# Altium integrated library TI Power Management Power Modules.IntLib: 831 symbols (part 4 of 44)
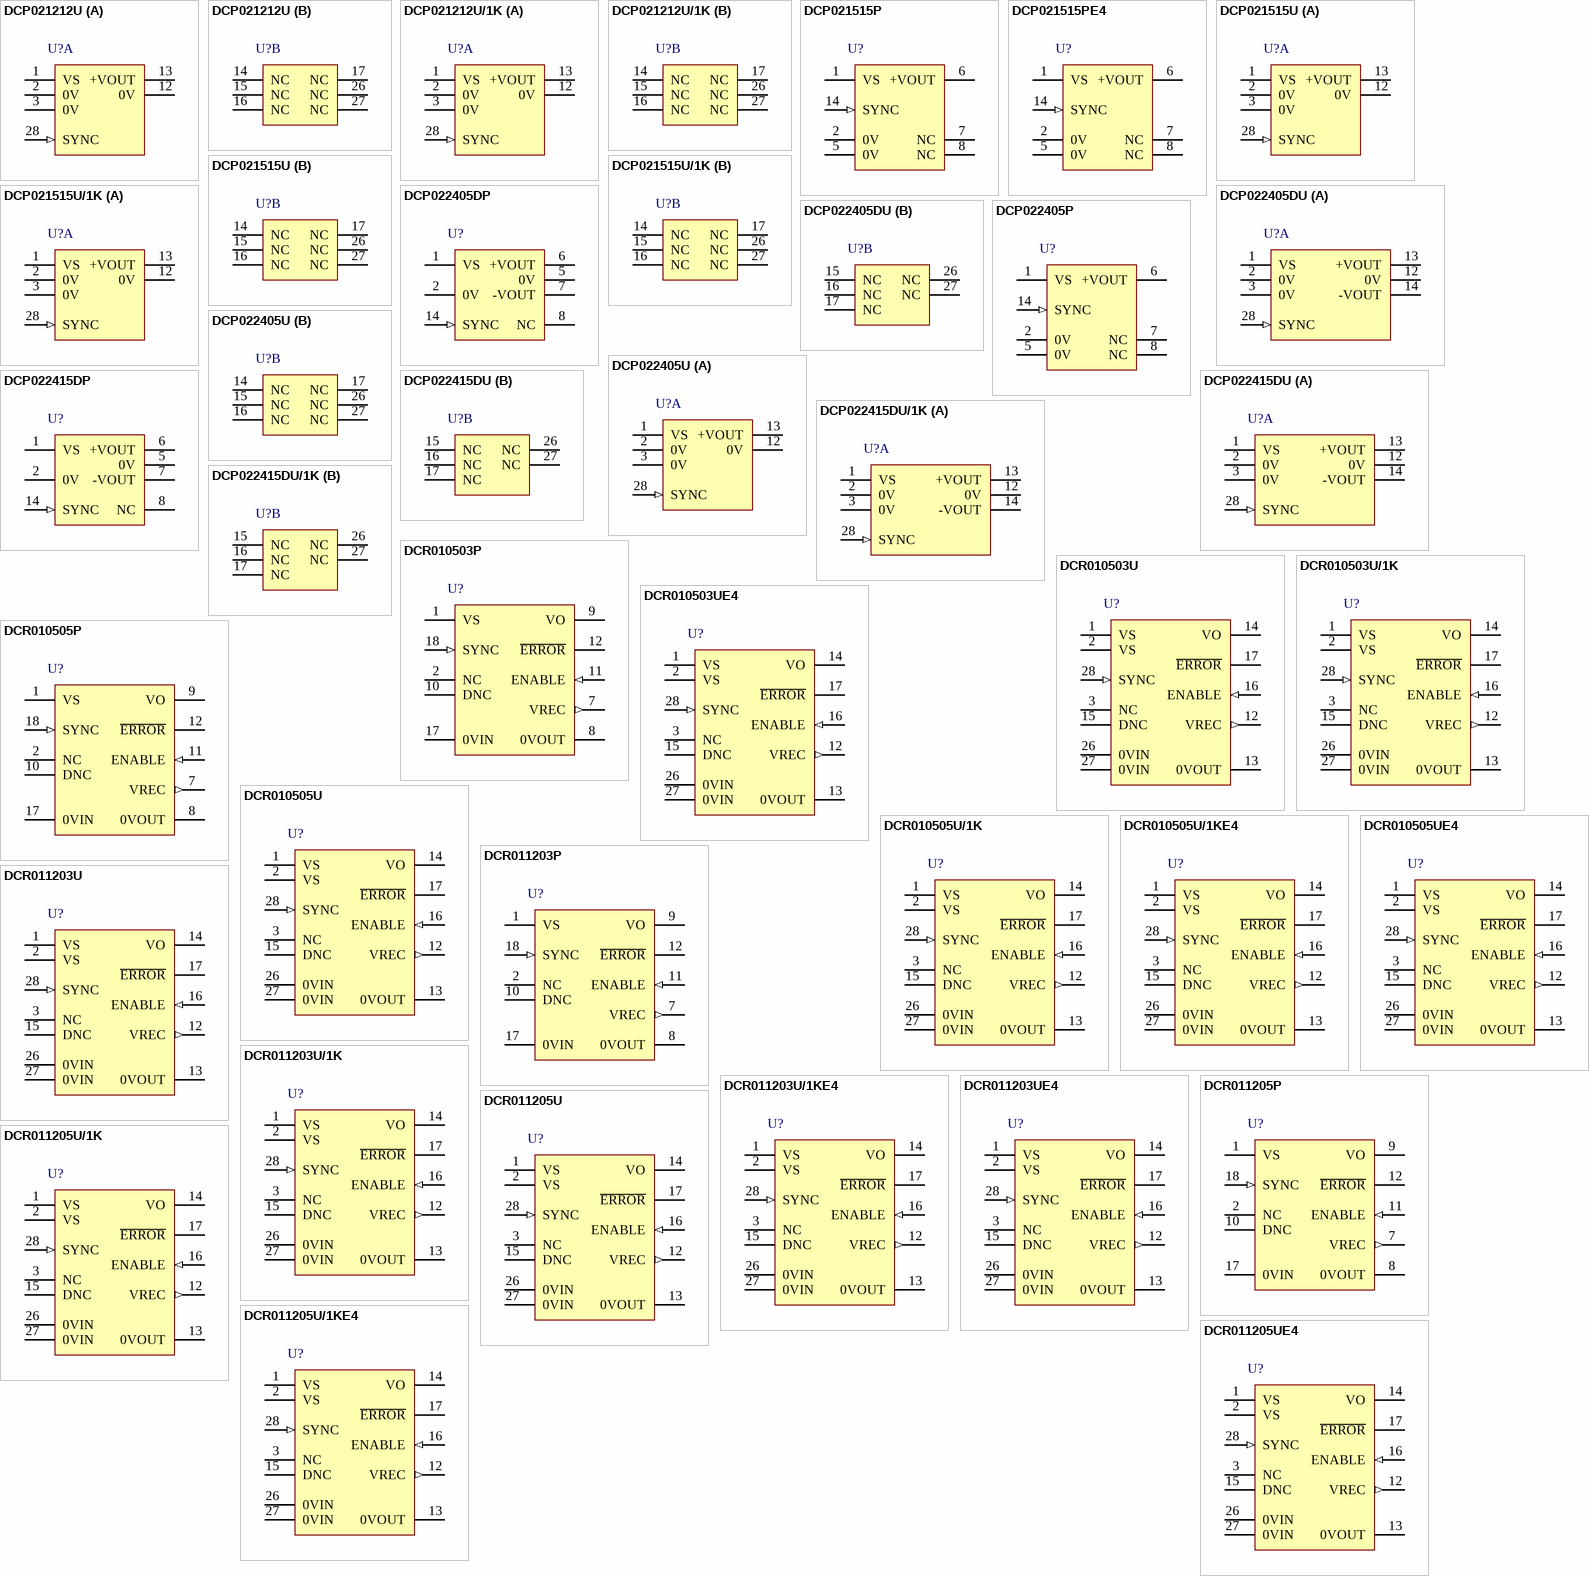
[diagram p26: symbols DCP021212U to DCR011205UE4]

## DCR010505U/1KE4
designator U?
Miniature, 1 W Isolated Regulated DC-DC Converter, -40 to 85 degC, 12-pin SOP (DVB12), Pb-Free (RoHS); Manufacturer: Texas Instruments; PartNumber: DCR010505U/1KE4; Iout(Max)(A): 0.2; Regulated Outputs(#): 1; SubFamily: 1 W & 2 W Miniature; Vin(Max)(V): 5.5; Vin(Min)(V): 4.5; Vout(Max)(V): 5.1; Vout(Min)(V): 4.9; DatasheetVersion: SBVS013C; PackageVersion: 4202104/B; PackageReference: DVB12; PackageDescription: 12-Pin Plastic Small Outline, Body 17.9 x 7.5 mm; Supplier 1: Digi-Key; Supplier Part Number 1: DCR010505U/1KE4-ND; Supplier 2: Newark; Supplier Part Number 2: 81K1816; Supplier 3: Mouser; Supplier Part Number 3: 595-DCR010505U/1KE4; Eco-Plan: Pb-Free (RoHS); Mounting Technology: Surface Mount; Code_JEDEC: MS-013-AE; ComponentLink1Description: Manufacturer URL; ComponentLink1URL: http://www.ti.com/; ComponentLink2Description: Datasheet; ComponentLink2URL: http://www.ti.com/general/docs/lit/getliterature.tsp?genericPartNumber=DCR010505&fileType=pdf; ComponentLink3Description: Package Specification; ComponentLink3URL: http://www.ti.com/lit/ml/mpds106a/mpds106a.pdf; ComponentLink4Description: URL Link1; ComponentLink4URL: Samples URL:http://www.ti.com/product/dcr010505#samples
footprint TI-DVB12_N (SOP, 12-Leads, Body 17.9x7.5mm, Pitch 1.27mm, IPC Medium Density)
footprint TI-DVB12_L (SOP, 12-Leads, Body 17.9x7.5mm, Pitch 1.27mm, IPC High Density)
footprint TI-DVB12_M (SOP, 12-Leads, Body 17.9x7.5mm, Pitch 1.27mm, IPC Low Density)
pins: 1 VS (power) "Voltage Input", 2 VS (power) "Voltage Input", 3 NC "No Connection", 12 VREC (out) "Rectified Output", 13 0VOUT (power) "Output Ground", 14 VO (power) "Voltage Output", 15 DNC "Do Not Connect", 16 ENABLE (in) "Output Voltage Enable", 17 ~{ERROR} (oc) "Error Flag Active Low", 26 0VIN (power) "Input Ground", 27 0VIN (power) "Input Ground", 28 SYNC (in) "Synchronization Input"

## DCR010505UE4
designator U?
Miniature, 1 W Isolated Regulated DC-DC Converter, -40 to 85 degC, 12-pin SOP (DVB12), Pb-Free (RoHS); Manufacturer: Texas Instruments; PartNumber: DCR010505UE4; Iout(Max)(A): 0.2; Regulated Outputs(#): 1; SubFamily: 1 W & 2 W Miniature; Vin(Max)(V): 5.5; Vin(Min)(V): 4.5; Vout(Max)(V): 5.1; Vout(Min)(V): 4.9; DatasheetVersion: SBVS013C; PackageVersion: 4202104/B; PackageReference: DVB12; PackageDescription: 12-Pin Plastic Small Outline, Body 17.9 x 7.5 mm; Supplier 1: Digi-Key; Supplier Part Number 1: DCR010505UE4-ND; Supplier 2: Newark; Supplier Part Number 2: 81K1817; Supplier 3: Mouser; Supplier Part Number 3: 595-DCR010505UE4; Eco-Plan: Pb-Free (RoHS); Mounting Technology: Surface Mount; Code_JEDEC: MS-013-AE; ComponentLink1Description: Manufacturer URL; ComponentLink1URL: http://www.ti.com/; ComponentLink2Description: Datasheet; ComponentLink2URL: http://www.ti.com/general/docs/lit/getliterature.tsp?genericPartNumber=DCR010505&fileType=pdf; ComponentLink3Description: Package Specification; ComponentLink3URL: http://www.ti.com/lit/ml/mpds106a/mpds106a.pdf; ComponentLink4Description: URL Link1; ComponentLink4URL: Samples URL:http://www.ti.com/product/tps55010#samples
footprint TI-DVB12_N (SOP, 12-Leads, Body 17.9x7.5mm, Pitch 1.27mm, IPC Medium Density)
footprint TI-DVB12_L (SOP, 12-Leads, Body 17.9x7.5mm, Pitch 1.27mm, IPC High Density)
footprint TI-DVB12_M (SOP, 12-Leads, Body 17.9x7.5mm, Pitch 1.27mm, IPC Low Density)
pins: 1 VS (power) "Voltage Input", 2 VS (power) "Voltage Input", 3 NC "No Connection", 12 VREC (out) "Rectified Output", 13 0VOUT (power) "Output Ground", 14 VO (power) "Voltage Output", 15 DNC "Do Not Connect", 16 ENABLE (in) "Output Voltage Enable", 17 ~{ERROR} (oc) "Error Flag Active Low", 26 0VIN (power) "Input Ground", 27 0VIN (power) "Input Ground", 28 SYNC (in) "Synchronization Input"

## DCR011203P
designator U?
Miniature, 1 W Isolated Regulated DC-DC Converter, -40 to 85 degC, 10-pin DIP (NVE10); Manufacturer: Texas Instruments; PartNumber: DCR011203P; Eco-Plan: TBD; Iout(Max)(A): 0.39; Regulated Outputs(#): 1; SubFamily: 1 W & 2 W Miniature; Vin(Max)(V): 13.2; Vin(Min)(V): 10.8; Vout(Max)(V): 3.366; Vout(Min)(V): 3.234; DatasheetVersion: SBVS013C; PackageVersion: 4202497/A; PackageReference: NVE10; PackageDescription: 10-Pin Plastic In-Line, Body 6.61 x 22.86 mm; Supplier 1: Digi-Key; Supplier Part Number 1: DCR011203P-ND; Supplier 2: Newark; Supplier Part Number 2: 74C9368; Supplier 3: Mouser; Supplier Part Number 3: 595-DCR011203P; Mounting Technology: Through Hole; Code_JEDEC: MS-001-AC; ComponentLink1Description: Manufacturer URL; ComponentLink1URL: http://www.ti.com/; ComponentLink2Description: Datasheet; ComponentLink2URL: http://www.ti.com/general/docs/lit/getliterature.tsp?genericPartNumber=DCR011203&fileType=pdf; ComponentLink3Description: Package Specification; ComponentLink3URL: http://www.ti.com/litv/pdf/mpdi055; ComponentLink4Description: URL Link1; ComponentLink4URL: Samples URL:http://www.ti.com/product/dcr011203#samples
footprint TI-NVE10 (DIP, 10-Leads, Body 22.86x6.61mm, Pitch 2.54mm)
pins: 1 VS (power) "Voltage input", 2 NC "No connection", 7 VREC (out) "Rectified output", 8 0VOUT (power) "Output ground", 9 VO (power) "Voltage output", 10 DNC "Do not connect", 11 ENABLE (in) "Output voltage enable", 12 ~{ERROR} (oc) "Error flag active low", 17 0VIN (power) "Input ground", 18 SYNC (in) "Synchronization input"

## DCR011203U
designator U?
Miniature, 1 W Isolated Regulated DC-DC Converter, -40 to 85 degC, 12-pin SOP (DVB12), Pb-Free (RoHS); Manufacturer: Texas Instruments; PartNumber: DCR011203U; Iout(Max)(A): 0.3; Regulated Outputs(#): 1; SubFamily: 1 W & 2 W Miniature; Vin(Max)(V): 13.2; Vin(Min)(V): 10.8; Vout(Max)(V): 3.366; Vout(Min)(V): 3.234; DatasheetVersion: SBVS013C; PackageVersion: 4202104/B; PackageReference: DVB12; PackageDescription: 12-Pin Plastic Small Outline, Body 17.9 x 7.5 mm; Supplier 1: Digi-Key; Supplier Part Number 1: 296-9452-5-ND; Supplier 2: Newark; Supplier Part Number 2: 74C9369; Supplier 3: Mouser; Supplier Part Number 3: 595-DCR011203U; Eco-Plan: Pb-Free (RoHS); Mounting Technology: Surface Mount; Code_JEDEC: MS-013-AE; ComponentLink1Description: Manufacturer URL; ComponentLink1URL: http://www.ti.com/; ComponentLink2Description: Datasheet; ComponentLink2URL: http://www.ti.com/general/docs/lit/getliterature.tsp?genericPartNumber=DCR011203&fileType=pdf; ComponentLink3Description: Package Specification; ComponentLink3URL: http://www.ti.com/lit/ml/mpds106a/mpds106a.pdf; ComponentLink4Description: URL Link1; ComponentLink4URL: Samples URL:http://www.ti.com/product/dcr011203#samples
footprint TI-DVB12_N (SOP, 12-Leads, Body 17.9x7.5mm, Pitch 1.27mm, IPC Medium Density)
footprint TI-DVB12_L (SOP, 12-Leads, Body 17.9x7.5mm, Pitch 1.27mm, IPC High Density)
footprint TI-DVB12_M (SOP, 12-Leads, Body 17.9x7.5mm, Pitch 1.27mm, IPC Low Density)
pins: 1 VS (power) "Voltage Input", 2 VS (power) "Voltage Input", 3 NC "No Connection", 12 VREC (out) "Rectified Output", 13 0VOUT (power) "Output Ground", 14 VO (power) "Voltage Output", 15 DNC "Do Not Connect", 16 ENABLE (in) "Output Voltage Enable", 17 ~{ERROR} (oc) "Error Flag Active Low", 26 0VIN (power) "Input Ground", 27 0VIN (power) "Input Ground", 28 SYNC (in) "Synchronization Input"

## DCR011203U/1K
designator U?
Miniature, 1 W Isolated Regulated DC-DC Converter, -40 to 85 degC, 12-pin SOP (DVB12), Pb-Free (RoHS); Manufacturer: Texas Instruments; PartNumber: DCR011203U/1K; Iout(Max)(A): 0.3; Regulated Outputs(#): 1; SubFamily: 1 W & 2 W Miniature; Vin(Max)(V): 13.2; Vin(Min)(V): 10.8; Vout(Max)(V): 3.366; Vout(Min)(V): 3.234; DatasheetVersion: SBVS013C; PackageVersion: 4202104/B; PackageReference: DVB12; PackageDescription: 12-Pin Plastic Small Outline, Body 17.9 x 7.5 mm; Supplier 1: Digi-Key; Supplier Part Number 1: DCR011203U/1K-ND; Supplier 2: Mouser; Supplier Part Number 2: 595-DCR011203U/1K; Eco-Plan: Pb-Free (RoHS); Mounting Technology: Surface Mount; Code_JEDEC: MS-013-AE; ComponentLink1Description: Manufacturer URL; ComponentLink1URL: http://www.ti.com/; ComponentLink2Description: Datasheet; ComponentLink2URL: http://www.ti.com/general/docs/lit/getliterature.tsp?genericPartNumber=DCR011203&fileType=pdf; ComponentLink3Description: Package Specification; ComponentLink3URL: http://www.ti.com/lit/ml/mpds106a/mpds106a.pdf; ComponentLink4Description: URL Link1; ComponentLink4URL: Samples URL:http://www.ti.com/product/dcr011203#samples
footprint TI-DVB12_N (SOP, 12-Leads, Body 17.9x7.5mm, Pitch 1.27mm, IPC Medium Density)
footprint TI-DVB12_L (SOP, 12-Leads, Body 17.9x7.5mm, Pitch 1.27mm, IPC High Density)
footprint TI-DVB12_M (SOP, 12-Leads, Body 17.9x7.5mm, Pitch 1.27mm, IPC Low Density)
pins: 1 VS (power) "Voltage Input", 2 VS (power) "Voltage Input", 3 NC "No Connection", 12 VREC (out) "Rectified Output", 13 0VOUT (power) "Output Ground", 14 VO (power) "Voltage Output", 15 DNC "Do Not Connect", 16 ENABLE (in) "Output Voltage Enable", 17 ~{ERROR} (oc) "Error Flag Active Low", 26 0VIN (power) "Input Ground", 27 0VIN (power) "Input Ground", 28 SYNC (in) "Synchronization Input"

## DCR011203U/1KE4
designator U?
Miniature, 1 W Isolated Regulated DC-DC Converter, -40 to 85 degC, 12-pin SOP (DVB12), Pb-Free (RoHS); Manufacturer: Texas Instruments; PartNumber: DCR011203U/1KE4; Iout(Max)(A): 0.3; Regulated Outputs(#): 1; SubFamily: 1 W & 2 W Miniature; Vin(Max)(V): 13.2; Vin(Min)(V): 10.8; Vout(Max)(V): 3.366; Vout(Min)(V): 3.234; DatasheetVersion: SBVS013C; PackageVersion: 4202104/B; PackageReference: DVB12; PackageDescription: 12-Pin Plastic Small Outline, Body 17.9 x 7.5 mm; Supplier 1: Digi-Key; Supplier Part Number 1: DCR011203U/1KE4-ND; Supplier 2: Mouser; Supplier Part Number 2: 595-DCR011203U/1KE4; Eco-Plan: Pb-Free (RoHS); Mounting Technology: Surface Mount; Code_JEDEC: MS-013-AE; ComponentLink1Description: Manufacturer URL; ComponentLink1URL: http://www.ti.com/; ComponentLink2Description: Datasheet; ComponentLink2URL: http://www.ti.com/general/docs/lit/getliterature.tsp?genericPartNumber=DCR011203&fileType=pdf; ComponentLink3Description: Package Specification; ComponentLink3URL: http://www.ti.com/lit/ml/mpds106a/mpds106a.pdf; ComponentLink4Description: URL Link1; ComponentLink4URL: Samples URL:http://www.ti.com/product/dcr011203#samples
footprint TI-DVB12_N (SOP, 12-Leads, Body 17.9x7.5mm, Pitch 1.27mm, IPC Medium Density)
footprint TI-DVB12_L (SOP, 12-Leads, Body 17.9x7.5mm, Pitch 1.27mm, IPC High Density)
footprint TI-DVB12_M (SOP, 12-Leads, Body 17.9x7.5mm, Pitch 1.27mm, IPC Low Density)
pins: 1 VS (power) "Voltage Input", 2 VS (power) "Voltage Input", 3 NC "No Connection", 12 VREC (out) "Rectified Output", 13 0VOUT (power) "Output Ground", 14 VO (power) "Voltage Output", 15 DNC "Do Not Connect", 16 ENABLE (in) "Output Voltage Enable", 17 ~{ERROR} (oc) "Error Flag Active Low", 26 0VIN (power) "Input Ground", 27 0VIN (power) "Input Ground", 28 SYNC (in) "Synchronization Input"

## DCR011203UE4
designator U?
Miniature, 1 W Isolated Regulated DC-DC Converter, -40 to 85 degC, 12-pin SOP (DVB12), Pb-Free (RoHS); Manufacturer: Texas Instruments; PartNumber: DCR011203UE4; Iout(Max)(A): 0.3; Regulated Outputs(#): 1; SubFamily: 1 W & 2 W Miniature; Vin(Max)(V): 13.2; Vin(Min)(V): 10.8; Vout(Max)(V): 3.366; Vout(Min)(V): 3.234; DatasheetVersion: SBVS013C; PackageVersion: 4202104/B; PackageReference: DVB12; PackageDescription: 12-Pin Plastic Small Outline, Body 17.9 x 7.5 mm; Supplier 1: Digi-Key; Supplier Part Number 1: DCR011203UE4-ND; Supplier 2: Mouser; Supplier Part Number 2: 595-DCR011203UE4; Eco-Plan: Pb-Free (RoHS); Mounting Technology: Surface Mount; Code_JEDEC: MS-013-AE; ComponentLink1Description: Manufacturer URL; ComponentLink1URL: http://www.ti.com/; ComponentLink2Description: Datasheet; ComponentLink2URL: http://www.ti.com/general/docs/lit/getliterature.tsp?genericPartNumber=DCR011203&fileType=pdf; ComponentLink3Description: Package Specification; ComponentLink3URL: http://www.ti.com/lit/ml/mpds106a/mpds106a.pdf; ComponentLink4Description: URL Link1; ComponentLink4URL: Samples URL:http://www.ti.com/product/tps55010#samples
footprint TI-DVB12_N (SOP, 12-Leads, Body 17.9x7.5mm, Pitch 1.27mm, IPC Medium Density)
footprint TI-DVB12_L (SOP, 12-Leads, Body 17.9x7.5mm, Pitch 1.27mm, IPC High Density)
footprint TI-DVB12_M (SOP, 12-Leads, Body 17.9x7.5mm, Pitch 1.27mm, IPC Low Density)
pins: 1 VS (power) "Voltage Input", 2 VS (power) "Voltage Input", 3 NC "No Connection", 12 VREC (out) "Rectified Output", 13 0VOUT (power) "Output Ground", 14 VO (power) "Voltage Output", 15 DNC "Do Not Connect", 16 ENABLE (in) "Output Voltage Enable", 17 ~{ERROR} (oc) "Error Flag Active Low", 26 0VIN (power) "Input Ground", 27 0VIN (power) "Input Ground", 28 SYNC (in) "Synchronization Input"

## DCR011205P
designator U?
Miniature, 1 W Isolated Regulated DC-DC Converter, -40 to 85 degC, 10-pin DIP (NVE10), Pb-Free (RoHS); Manufacturer: Texas Instruments; PartNumber: DCR011205P; Iout(Max)(A): 0.2; Regulated Outputs(#): 1; SubFamily: 1 W & 2 W Miniature; Vin(Max)(V): 13.2; Vin(Min)(V): 10.8; Vout(Max)(V): 5.1; Vout(Min)(V): 4.9; DatasheetVersion: SBVS013C; PackageVersion: 4202497/A; PackageReference: NVE10; PackageDescription: 10-Pin Plastic In-Line, Body 6.61 x 22.86 mm; Supplier 1: Digi-Key; Supplier Part Number 1: DCR011205P-ND; Supplier 2: Newark; Supplier Part Number 2: 74C9371; Supplier 3: Mouser; Supplier Part Number 3: 595-DCR011205P; Eco-Plan: Pb-Free (RoHS); Mounting Technology: Through Hole; Code_JEDEC: MS-001-AC; ComponentLink1Description: Manufacturer URL; ComponentLink1URL: http://www.ti.com/; ComponentLink2Description: Datasheet; ComponentLink2URL: http://www.ti.com/general/docs/lit/getliterature.tsp?genericPartNumber=DCR011205&fileType=pdf; ComponentLink3Description: Package Specification; ComponentLink3URL: http://www.ti.com/litv/pdf/mpdi055; ComponentLink4Description: URL Link1; ComponentLink4URL: Samples URL:http://www.ti.com/product/dcr011205#samples
footprint TI-NVE10 (DIP, 10-Leads, Body 22.86x6.61mm, Pitch 2.54mm)
pins: 1 VS (power) "Voltage input", 2 NC "No connection", 7 VREC (out) "Rectified output", 8 0VOUT (power) "Output ground", 9 VO (power) "Voltage output", 10 DNC "Do not connect", 11 ENABLE (in) "Output voltage enable", 12 ~{ERROR} (oc) "Error flag active low", 17 0VIN (power) "Input ground", 18 SYNC (in) "Synchronization input"

## DCR011205U
designator U?
Miniature, 1 W Isolated Regulated DC-DC Converter, -40 to 85 degC, 12-pin SOP (DVB12), Pb-Free (RoHS); Manufacturer: Texas Instruments; PartNumber: DCR011205U; Iout(Max)(A): 0.2; Regulated Outputs(#): 1; SubFamily: 1 W & 2 W Miniature; Vin(Max)(V): 13.2; Vin(Min)(V): 10.8; Vout(Max)(V): 5.1; Vout(Min)(V): 4.9; DatasheetVersion: SBVS013C; PackageVersion: 4202104/B; PackageReference: DVB12; PackageDescription: 12-Pin Plastic Small Outline, Body 17.9 x 7.5 mm; Supplier 1: Digi-Key; Supplier Part Number 1: 296-9453-5-ND; Supplier 2: Farnell; Supplier Part Number 2: 1212385; Supplier 3: Newark; Supplier Part Number 3: 01M7319; Supplier 4: Newark; Supplier Part Number 4: 74C9372; Supplier 5: Mouser; Supplier Part Number 5: 595-DCR011205U; Eco-Plan: Pb-Free (RoHS); Mounting Technology: Surface Mount; Code_JEDEC: MS-013-AE; ComponentLink1Description: Manufacturer URL; ComponentLink1URL: http://www.ti.com/; ComponentLink2Description: Datasheet; ComponentLink2URL: http://www.ti.com/general/docs/lit/getliterature.tsp?genericPartNumber=DCR011205&fileType=pdf; ComponentLink3Description: Package Specification; ComponentLink3URL: http://www.ti.com/lit/ml/mpds106a/mpds106a.pdf; ComponentLink4Description: URL Link1; ComponentLink4URL: Samples URL:http://www.ti.com/product/dcr011205#samples
footprint TI-DVB12_N (SOP, 12-Leads, Body 17.9x7.5mm, Pitch 1.27mm, IPC Medium Density)
footprint TI-DVB12_L (SOP, 12-Leads, Body 17.9x7.5mm, Pitch 1.27mm, IPC High Density)
footprint TI-DVB12_M (SOP, 12-Leads, Body 17.9x7.5mm, Pitch 1.27mm, IPC Low Density)
pins: 1 VS (power) "Voltage Input", 2 VS (power) "Voltage Input", 3 NC "No Connection", 12 VREC (out) "Rectified Output", 13 0VOUT (power) "Output Ground", 14 VO (power) "Voltage Output", 15 DNC "Do Not Connect", 16 ENABLE (in) "Output Voltage Enable", 17 ~{ERROR} (oc) "Error Flag Active Low", 26 0VIN (power) "Input Ground", 27 0VIN (power) "Input Ground", 28 SYNC (in) "Synchronization Input"

## DCR011205U/1K
designator U?
Miniature, 1 W Isolated Regulated DC-DC Converter, -40 to 85 degC, 12-pin SOP (DVB12), Pb-Free (RoHS); Manufacturer: Texas Instruments; PartNumber: DCR011205U/1K; Iout(Max)(A): 0.2; Regulated Outputs(#): 1; SubFamily: 1 W & 2 W Miniature; Vin(Max)(V): 13.2; Vin(Min)(V): 10.8; Vout(Max)(V): 5.1; Vout(Min)(V): 4.9; DatasheetVersion: SBVS013C; PackageVersion: 4202104/B; PackageReference: DVB12; PackageDescription: 12-Pin Plastic Small Outline, Body 17.9 x 7.5 mm; Supplier 1: Digi-Key; Supplier Part Number 1: DCR011205U/1K-ND; Supplier 2: Newark; Supplier Part Number 2: 74C9373; Supplier 3: Mouser; Supplier Part Number 3: 595-DCR011205U/1K; Eco-Plan: Pb-Free (RoHS); Mounting Technology: Surface Mount; Code_JEDEC: MS-013-AE; ComponentLink1Description: Manufacturer URL; ComponentLink1URL: http://www.ti.com/; ComponentLink2Description: Datasheet; ComponentLink2URL: http://www.ti.com/general/docs/lit/getliterature.tsp?genericPartNumber=DCR011205&fileType=pdf; ComponentLink3Description: Package Specification; ComponentLink3URL: http://www.ti.com/lit/ml/mpds106a/mpds106a.pdf; ComponentLink4Description: URL Link1; ComponentLink4URL: Samples URL:http://www.ti.com/product/dcr011205#samples
footprint TI-DVB12_N (SOP, 12-Leads, Body 17.9x7.5mm, Pitch 1.27mm, IPC Medium Density)
footprint TI-DVB12_L (SOP, 12-Leads, Body 17.9x7.5mm, Pitch 1.27mm, IPC High Density)
footprint TI-DVB12_M (SOP, 12-Leads, Body 17.9x7.5mm, Pitch 1.27mm, IPC Low Density)
pins: 1 VS (power) "Voltage Input", 2 VS (power) "Voltage Input", 3 NC "No Connection", 12 VREC (out) "Rectified Output", 13 0VOUT (power) "Output Ground", 14 VO (power) "Voltage Output", 15 DNC "Do Not Connect", 16 ENABLE (in) "Output Voltage Enable", 17 ~{ERROR} (oc) "Error Flag Active Low", 26 0VIN (power) "Input Ground", 27 0VIN (power) "Input Ground", 28 SYNC (in) "Synchronization Input"

## DCR011205U/1KE4
designator U?
Miniature, 1 W Isolated Regulated DC-DC Converter, 12-pin SOP (DVB12), -40 to 85 degC, Pb-Free (RoHS); Manufacturer: Texas Instruments; PartNumber: DCR011205U/1KE4; Iout(Max)(A): 0.2; Regulated Outputs(#): 1; SubFamily: 1 W & 2 W Miniature; Vin(Max)(V): 13.2; Vin(Min)(V): 10.8; Vout(Max)(V): 5.1; Vout(Min)(V): 4.9; DatasheetVersion: SBVS013C; PackageVersion: 4202104/B; PackageReference: DVB12; PackageDescription: 12-Pin Plastic Small Outline, Body 17.9 x 7.5 mm; Supplier 1: Digi-Key; Supplier Part Number 1: DCR011205U/1KE4-ND; Supplier 2: Mouser; Supplier Part Number 2: 595-DCR011205U/1KE4; Eco-Plan: Pb-Free (RoHS); Mounting Technology: Surface Mount; Code_JEDEC: MS-013-AE; ComponentLink1Description: Manufacturer URL; ComponentLink1URL: http://www.ti.com/; ComponentLink2Description: Datasheet; ComponentLink2URL: http://www.ti.com/general/docs/lit/getliterature.tsp?genericPartNumber=DCR011205&fileType=pdf; ComponentLink3Description: Package Specification; ComponentLink3URL: http://www.ti.com/lit/ml/mpds106a/mpds106a.pdf; ComponentLink4Description: URL Link1; ComponentLink4URL: Samples URL:http://www.ti.com/product/dcr011205#samples
footprint TI-DVB12_N (SOP, 12-Leads, Body 17.9x7.5mm, Pitch 1.27mm, IPC Medium Density)
footprint TI-DVB12_L (SOP, 12-Leads, Body 17.9x7.5mm, Pitch 1.27mm, IPC High Density)
footprint TI-DVB12_M (SOP, 12-Leads, Body 17.9x7.5mm, Pitch 1.27mm, IPC Low Density)
pins: 1 VS (power) "Voltage Input", 2 VS (power) "Voltage Input", 3 NC "No Connection", 12 VREC (out) "Rectified Output", 13 0VOUT (power) "Output Ground", 14 VO (power) "Voltage Output", 15 DNC "Do Not Connect", 16 ENABLE (in) "Output Voltage Enable", 17 ~{ERROR} (oc) "Error Flag Active Low", 26 0VIN (power) "Input Ground", 27 0VIN (power) "Input Ground", 28 SYNC (in) "Synchronization Input"

## DCR011205UE4
designator U?
Miniature, 1 W Isolated Regulated DC-DC Converter, 12-pin SOP (DVB12), -40 to 85 degC, Pb-Free (RoHS); Manufacturer: Texas Instruments; PartNumber: DCR011205UE4; Iout(Max)(A): 0.2; Regulated Outputs(#): 1; SubFamily: 1 W & 2 W Miniature; Vin(Max)(V): 13.2; Vin(Min)(V): 10.8; Vout(Max)(V): 5.1; Vout(Min)(V): 4.9; DatasheetVersion: SBVS013C; PackageVersion: 4202104/B; PackageReference: DVB12; PackageDescription: 12-Pin Plastic Small Outline, Body 17.9 x 7.5 mm; Supplier 1: Digi-Key; Supplier Part Number 1: DCR011205UE4-ND; Supplier 2: Newark; Supplier Part Number 2: 26M9162; Supplier 3: Mouser; Supplier Part Number 3: 595-DCR011205UE4; Eco-Plan: Pb-Free (RoHS); Mounting Technology: Surface Mount; Code_JEDEC: MS-013-AE; ComponentLink1Description: Manufacturer URL; ComponentLink1URL: http://www.ti.com/; ComponentLink2Description: Datasheet; ComponentLink2URL: http://www.ti.com/general/docs/lit/getliterature.tsp?genericPartNumber=DCR011205&fileType=pdf; ComponentLink3Description: Package Specification; ComponentLink3URL: http://www.ti.com/lit/ml/mpds106a/mpds106a.pdf; ComponentLink4Description: URL Link1; ComponentLink4URL: Samples URL:http://www.ti.com/product/tps55010#samples
footprint TI-DVB12_N (SOP, 12-Leads, Body 17.9x7.5mm, Pitch 1.27mm, IPC Medium Density)
footprint TI-DVB12_L (SOP, 12-Leads, Body 17.9x7.5mm, Pitch 1.27mm, IPC High Density)
footprint TI-DVB12_M (SOP, 12-Leads, Body 17.9x7.5mm, Pitch 1.27mm, IPC Low Density)
pins: 1 VS (power) "Voltage Input", 2 VS (power) "Voltage Input", 3 NC "No Connection", 12 VREC (out) "Rectified Output", 13 0VOUT (power) "Output Ground", 14 VO (power) "Voltage Output", 15 DNC "Do Not Connect", 16 ENABLE (in) "Output Voltage Enable", 17 ~{ERROR} (oc) "Error Flag Active Low", 26 0VIN (power) "Input Ground", 27 0VIN (power) "Input Ground", 28 SYNC (in) "Synchronization Input"

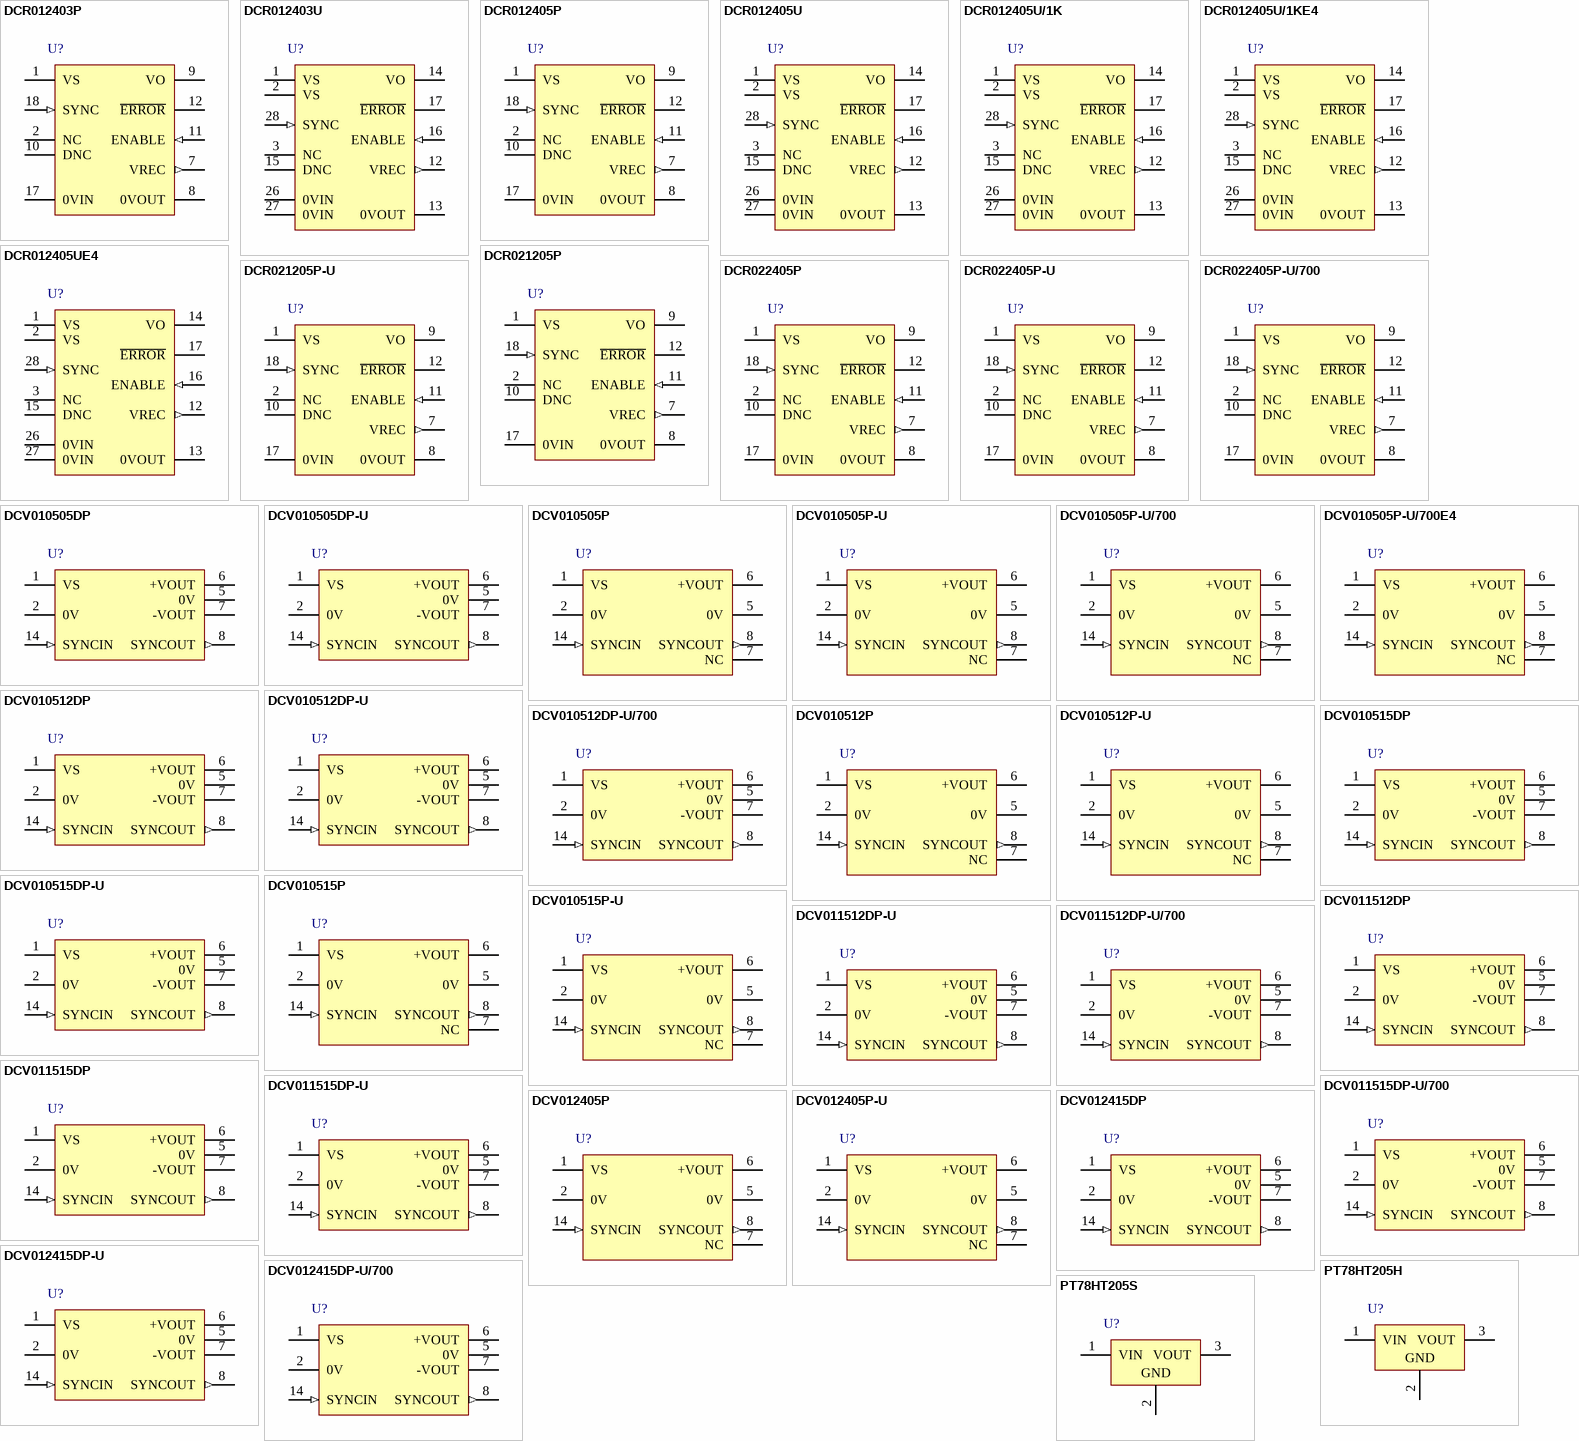
[diagram p3: symbols DCR012403P to PT78HT205S]

## DCR012403P
designator U?
Miniature, 1 W Isolated Regulated DC-DC Converter, -40 to 85 degC, 10-pin DIP (NVE10), Pb-Free (RoHS); Manufacturer: Texas Instruments; PartNumber: DCR012403P; Iout(Max)(A): 0.39; Regulated Outputs(#): 1; SubFamily: 1 W & 2 W Miniature; Vin(Max)(V): 26.4; Vin(Min)(V): 21.6; Vout(Max)(V): 3.366; Vout(Min)(V): 3.234; DatasheetVersion: SBVS013C; PackageVersion: 4202497/A; PackageReference: NVE10; PackageDescription: 10-Pin Plastic In-Line, Body 6.61 x 22.86 mm; Supplier 1: Digi-Key; Supplier Part Number 1: 296-9454-5-ND; Supplier 2: Newark; Supplier Part Number 2: 74C9374; Supplier 3: Mouser; Supplier Part Number 3: 595-DCR012403P; Eco-Plan: Pb-Free (RoHS); Mounting Technology: Through Hole; Code_JEDEC: MS-001-AC; ComponentLink1Description: Manufacturer URL; ComponentLink1URL: http://www.ti.com/; ComponentLink2Description: Datasheet; ComponentLink2URL: http://www.ti.com/general/docs/lit/getliterature.tsp?genericPartNumber=DCR012403&fileType=pdf; ComponentLink3Description: Package Specification; ComponentLink3URL: http://www.ti.com/litv/pdf/mpdi055; ComponentLink4Description: URL Link1; ComponentLink4URL: Samples URL:http://www.ti.com/product/dcr012403#samples
footprint TI-NVE10 (DIP, 10-Leads, Body 22.86x6.61mm, Pitch 2.54mm)
pins: 1 VS (power) "Voltage input", 2 NC "No connection", 7 VREC (out) "Rectified output", 8 0VOUT (power) "Output ground", 9 VO (power) "Voltage output", 10 DNC "Do not connect", 11 ENABLE (in) "Output voltage enable", 12 ~{ERROR} (oc) "Error flag active low", 17 0VIN (power) "Input ground", 18 SYNC (in) "Synchronization input"

## DCR012403U
designator U?
Miniature, 1 W Isolated Regulated DC-DC Converter, -40 to 85 degC, 12-pin SOP (DVB12), Pb-Free (RoHS); Manufacturer: Texas Instruments; PartNumber: DCR012403U; Iout(Max)(A): 0.3; Regulated Outputs(#): 1; SubFamily: 1 W & 2 W Miniature; Vin(Max)(V): 26.4; Vin(Min)(V): 21.6; Vout(Max)(V): 3.366; Vout(Min)(V): 3.234; DatasheetVersion: SBVS013C; PackageVersion: 4202104/B; PackageReference: DVB12; PackageDescription: 12-Pin Plastic Small Outline, Body 17.9 x 7.5 mm; Supplier 1: Digi-Key; Supplier Part Number 1: 296-9455-5-ND; Supplier 2: Newark; Supplier Part Number 2: 74C9375; Supplier 3: Mouser; Supplier Part Number 3: 595-DCR012403U; Eco-Plan: Pb-Free (RoHS); Mounting Technology: Surface Mount; Code_JEDEC: MS-013-AE; ComponentLink1Description: Manufacturer URL; ComponentLink1URL: http://www.ti.com/; ComponentLink2Description: Datasheet; ComponentLink2URL: http://www.ti.com/general/docs/lit/getliterature.tsp?genericPartNumber=DCR012403&fileType=pdf; ComponentLink3Description: Package Specification; ComponentLink3URL: http://www.ti.com/lit/ml/mpds106a/mpds106a.pdf; ComponentLink4Description: URL Link1; ComponentLink4URL: Samples URL:http://www.ti.com/product/dcr012403#samples
footprint TI-DVB12_N (SOP, 12-Leads, Body 17.9x7.5mm, Pitch 1.27mm, IPC Medium Density)
footprint TI-DVB12_L (SOP, 12-Leads, Body 17.9x7.5mm, Pitch 1.27mm, IPC High Density)
footprint TI-DVB12_M (SOP, 12-Leads, Body 17.9x7.5mm, Pitch 1.27mm, IPC Low Density)
pins: 1 VS (power) "Voltage Input", 2 VS (power) "Voltage Input", 3 NC "No Connection", 12 VREC (out) "Rectified Output", 13 0VOUT (power) "Output Ground", 14 VO (power) "Voltage Output", 15 DNC "Do Not Connect", 16 ENABLE (in) "Output Voltage Enable", 17 ~{ERROR} (oc) "Error Flag Active Low", 26 0VIN (power) "Input Ground", 27 0VIN (power) "Input Ground", 28 SYNC (in) "Synchronization Input"

## DCR012405P
designator U?
Miniature, 1 W Isolated Regulated DC-DC Converter, -40 to 85 degC, 10-pin DIP (NVE10), Pb-Free (RoHS); Manufacturer: Texas Instruments; PartNumber: DCR012405P; Iout(Max)(A): 0.2; Regulated Outputs(#): 1; SubFamily: 1 W & 2 W Miniature; Vin(Max)(V): 26.4; Vin(Min)(V): 21.6; Vout(Max)(V): 5.1; Vout(Min)(V): 4.9; DatasheetVersion: SBVS013C; PackageVersion: 4202497/A; PackageReference: NVE10; PackageDescription: 10-Pin Plastic In-Line, Body 6.61 x 22.86 mm; Supplier 1: Digi-Key; Supplier Part Number 1: 296-9456-5-ND; Supplier 2: Newark; Supplier Part Number 2: 74C9377; Supplier 3: Mouser; Supplier Part Number 3: 595-DCR012405P; Eco-Plan: Pb-Free (RoHS); Mounting Technology: Through Hole; Code_JEDEC: MS-001-AC; ComponentLink1Description: Manufacturer URL; ComponentLink1URL: http://www.ti.com/; ComponentLink2Description: Datasheet; ComponentLink2URL: http://www.ti.com/general/docs/lit/getliterature.tsp?genericPartNumber=DCR012405&fileType=pdf; ComponentLink3Description: Package Specification; ComponentLink3URL: http://www.ti.com/litv/pdf/mpdi055; ComponentLink4Description: URL Link1; ComponentLink4URL: Samples URL:http://www.ti.com/product/dcr012405#samples
footprint TI-NVE10 (DIP, 10-Leads, Body 22.86x6.61mm, Pitch 2.54mm)
pins: 1 VS (power) "Voltage input", 2 NC "No connection", 7 VREC (out) "Rectified output", 8 0VOUT (power) "Output ground", 9 VO (power) "Voltage output", 10 DNC "Do not connect", 11 ENABLE (in) "Output voltage enable", 12 ~{ERROR} (oc) "Error flag active low", 17 0VIN (power) "Input ground", 18 SYNC (in) "Synchronization input"

## DCR012405U
designator U?
Miniature, 1 W Isolated Regulated DC-DC Converter, -40 to 85 degC, 12-pin SOP (DVB12), Pb-Free (RoHS); Manufacturer: Texas Instruments; PartNumber: DCR012405U; Iout(Max)(A): 0.2; Regulated Outputs(#): 1; SubFamily: 1 W & 2 W Miniature; Vin(Max)(V): 26.4; Vin(Min)(V): 21.6; Vout(Max)(V): 5.1; Vout(Min)(V): 4.9; DatasheetVersion: SBVS013C; PackageVersion: 4202104/B; PackageReference: DVB12; PackageDescription: 12-Pin Plastic Small Outline, Body 17.9 x 7.5 mm; Supplier 1: Digi-Key; Supplier Part Number 1: 296-9457-5-ND; Supplier 2: Newark; Supplier Part Number 2: 74C9378; Supplier 3: Mouser; Supplier Part Number 3: 595-DCR012405U; Eco-Plan: Pb-Free (RoHS); Mounting Technology: Surface Mount; Code_JEDEC: MS-013-AE; ComponentLink1Description: Manufacturer URL; ComponentLink1URL: http://www.ti.com/; ComponentLink2Description: Datasheet; ComponentLink2URL: http://www.ti.com/general/docs/lit/getliterature.tsp?genericPartNumber=DCR012405&fileType=pdf; ComponentLink3Description: Package Specification; ComponentLink3URL: http://www.ti.com/lit/ml/mpds106a/mpds106a.pdf; ComponentLink4Description: URL Link1; ComponentLink4URL: Samples URL:http://www.ti.com/product/dcr012405#samples
footprint TI-DVB12_N (SOP, 12-Leads, Body 17.9x7.5mm, Pitch 1.27mm, IPC Medium Density)
footprint TI-DVB12_L (SOP, 12-Leads, Body 17.9x7.5mm, Pitch 1.27mm, IPC High Density)
footprint TI-DVB12_M (SOP, 12-Leads, Body 17.9x7.5mm, Pitch 1.27mm, IPC Low Density)
pins: 1 VS (power) "Voltage Input", 2 VS (power) "Voltage Input", 3 NC "No Connection", 12 VREC (out) "Rectified Output", 13 0VOUT (power) "Output Ground", 14 VO (power) "Voltage Output", 15 DNC "Do Not Connect", 16 ENABLE (in) "Output Voltage Enable", 17 ~{ERROR} (oc) "Error Flag Active Low", 26 0VIN (power) "Input Ground", 27 0VIN (power) "Input Ground", 28 SYNC (in) "Synchronization Input"

## DCR012405U/1K
designator U?
Miniature, 1 W Isolated Regulated DC-DC Converter, -40 to 85 degC, 12-pin SOP (DVB12), Pb-Free (RoHS); Manufacturer: Texas Instruments; PartNumber: DCR012405U/1K; Iout(Max)(A): 0.2; Regulated Outputs(#): 1; SubFamily: 1 W & 2 W Miniature; Vin(Max)(V): 26.4; Vin(Min)(V): 21.6; Vout(Max)(V): 5.1; Vout(Min)(V): 4.9; DatasheetVersion: SBVS013C; PackageVersion: 4202104/B; PackageReference: DVB12; PackageDescription: 12-Pin Plastic Small Outline, Body 17.9 x 7.5 mm; Supplier 1: Digi-Key; Supplier Part Number 1: DCR012405U/1K-ND; Supplier 2: Newark; Supplier Part Number 2: 74C9379; Supplier 3: Mouser; Supplier Part Number 3: 595-DCR012405U/1K; Eco-Plan: Pb-Free (RoHS); Mounting Technology: Surface Mount; Code_JEDEC: MS-013-AE; ComponentLink1Description: Manufacturer URL; ComponentLink1URL: http://www.ti.com/; ComponentLink2Description: Datasheet; ComponentLink2URL: http://www.ti.com/general/docs/lit/getliterature.tsp?genericPartNumber=DCR012405&fileType=pdf; ComponentLink3Description: Package Specification; ComponentLink3URL: http://www.ti.com/lit/ml/mpds106a/mpds106a.pdf; ComponentLink4Description: URL Link1; ComponentLink4URL: Samples URL:http://www.ti.com/product/dcr012405#samples
footprint TI-DVB12_N (SOP, 12-Leads, Body 17.9x7.5mm, Pitch 1.27mm, IPC Medium Density)
footprint TI-DVB12_L (SOP, 12-Leads, Body 17.9x7.5mm, Pitch 1.27mm, IPC High Density)
footprint TI-DVB12_M (SOP, 12-Leads, Body 17.9x7.5mm, Pitch 1.27mm, IPC Low Density)
pins: 1 VS (power) "Voltage Input", 2 VS (power) "Voltage Input", 3 NC "No Connection", 12 VREC (out) "Rectified Output", 13 0VOUT (power) "Output Ground", 14 VO (power) "Voltage Output", 15 DNC "Do Not Connect", 16 ENABLE (in) "Output Voltage Enable", 17 ~{ERROR} (oc) "Error Flag Active Low", 26 0VIN (power) "Input Ground", 27 0VIN (power) "Input Ground", 28 SYNC (in) "Synchronization Input"

## DCR012405U/1KE4
designator U?
Miniature, 1 W Isolated Regulated DC-DC Converter, -40 to 85 degC, 12-pin SOP (DVB12), Pb-Free (RoHS); Manufacturer: Texas Instruments; PartNumber: DCR012405U/1KE4; Iout(Max)(A): 0.2; Regulated Outputs(#): 1; SubFamily: 1 W & 2 W Miniature; Vin(Max)(V): 26.4; Vin(Min)(V): 21.6; Vout(Max)(V): 5.1; Vout(Min)(V): 4.9; DatasheetVersion: SBVS013C; PackageVersion: 4202104/B; PackageReference: DVB12; PackageDescription: 12-Pin Plastic Small Outline, Body 17.9 x 7.5 mm; Supplier 1: Digi-Key; Supplier Part Number 1: DCR012405U/1KE4-ND; Supplier 2: Mouser; Supplier Part Number 2: 595-DCR012405U/1KE4; Eco-Plan: Pb-Free (RoHS); Mounting Technology: Surface Mount; Code_JEDEC: MS-013-AE; ComponentLink1Description: Manufacturer URL; ComponentLink1URL: http://www.ti.com/; ComponentLink2Description: Datasheet; ComponentLink2URL: http://www.ti.com/general/docs/lit/getliterature.tsp?genericPartNumber=DCR012405&fileType=pdf; ComponentLink3Description: Package Specification; ComponentLink3URL: http://www.ti.com/lit/ml/mpds106a/mpds106a.pdf; ComponentLink4Description: URL Link1; ComponentLink4URL: Samples URL:http://www.ti.com/product/dcr012405#samples
footprint TI-DVB12_N (SOP, 12-Leads, Body 17.9x7.5mm, Pitch 1.27mm, IPC Medium Density)
footprint TI-DVB12_L (SOP, 12-Leads, Body 17.9x7.5mm, Pitch 1.27mm, IPC High Density)
footprint TI-DVB12_M (SOP, 12-Leads, Body 17.9x7.5mm, Pitch 1.27mm, IPC Low Density)
pins: 1 VS (power) "Voltage Input", 2 VS (power) "Voltage Input", 3 NC "No Connection", 12 VREC (out) "Rectified Output", 13 0VOUT (power) "Output Ground", 14 VO (power) "Voltage Output", 15 DNC "Do Not Connect", 16 ENABLE (in) "Output Voltage Enable", 17 ~{ERROR} (oc) "Error Flag Active Low", 26 0VIN (power) "Input Ground", 27 0VIN (power) "Input Ground", 28 SYNC (in) "Synchronization Input"

## DCR012405UE4
designator U?
Miniature, 1 W Isolated Regulated DC-DC Converter, -40 to 85 degC, 12-pin SOP (DVB12), Pb-Free (RoHS); Manufacturer: Texas Instruments; PartNumber: DCR012405UE4; Iout(Max)(A): 0.2; Regulated Outputs(#): 1; SubFamily: 1 W & 2 W Miniature; Vin(Max)(V): 26.4; Vin(Min)(V): 21.6; Vout(Max)(V): 5.1; Vout(Min)(V): 4.9; DatasheetVersion: SBVS013C; PackageVersion: 4202104/B; PackageReference: DVB12; PackageDescription: 12-Pin Plastic Small Outline, Body 17.9 x 7.5 mm; Supplier 1: Digi-Key; Supplier Part Number 1: DCR012405UE4-ND; Supplier 2: Mouser; Supplier Part Number 2: 595-DCR012405UE4; Eco-Plan: Pb-Free (RoHS); Mounting Technology: Surface Mount; Code_JEDEC: MS-013-AE; ComponentLink1Description: Manufacturer URL; ComponentLink1URL: http://www.ti.com/; ComponentLink2Description: Datasheet; ComponentLink2URL: http://www.ti.com/general/docs/lit/getliterature.tsp?genericPartNumber=DCR012405&fileType=pdf; ComponentLink3Description: Package Specification; ComponentLink3URL: http://www.ti.com/lit/ml/mpds106a/mpds106a.pdf; ComponentLink4Description: URL Link1; ComponentLink4URL: Samples URL:http://www.ti.com/product/tps55010#samples
footprint TI-DVB12_N (SOP, 12-Leads, Body 17.9x7.5mm, Pitch 1.27mm, IPC Medium Density)
footprint TI-DVB12_L (SOP, 12-Leads, Body 17.9x7.5mm, Pitch 1.27mm, IPC High Density)
footprint TI-DVB12_M (SOP, 12-Leads, Body 17.9x7.5mm, Pitch 1.27mm, IPC Low Density)
pins: 1 VS (power) "Voltage Input", 2 VS (power) "Voltage Input", 3 NC "No Connection", 12 VREC (out) "Rectified Output", 13 0VOUT (power) "Output Ground", 14 VO (power) "Voltage Output", 15 DNC "Do Not Connect", 16 ENABLE (in) "Output Voltage Enable", 17 ~{ERROR} (oc) "Error Flag Active Low", 26 0VIN (power) "Input Ground", 27 0VIN (power) "Input Ground", 28 SYNC (in) "Synchronization Input"

## DCR021205P
designator U?
Miniature, 2 W Isolated Regulated DC-DC Converter, -40 to 70 degC, 10-pin DIP (NVE10), Pb-Free (RoHS); Manufacturer: Texas Instruments; PartNumber: DCR021205P; Iout(Max)(A): 0.4; Regulated Outputs(#): 1; SubFamily: 1 W & 2 W Miniature; Vin(Max)(V): 13.2; Vin(Min)(V): 10.8; Vout(Max)(V): 5.1; Vout(Min)(V): 4.9; DatasheetVersion: SBVS028B; PackageVersion: 4202497/A; PackageReference: NVE10; PackageDescription: 10-Pin Plastic In-Line, Body 6.61 x 22.86 mm; Supplier 1: Digi-Key; Supplier Part Number 1: 296-9458-5-ND; Supplier 2: Newark; Supplier Part Number 2: 74C9380; Supplier 3: Mouser; Supplier Part Number 3: 595-DCR021205P; Eco-Plan: Pb-Free (RoHS); Mounting Technology: Through Hole; Code_JEDEC: MS-001-AC; ComponentLink1Description: Manufacturer URL; ComponentLink1URL: http://www.ti.com/; ComponentLink2Description: Datasheet; ComponentLink2URL: http://www.ti.com/general/docs/lit/getliterature.tsp?genericPartNumber=DCR021205&fileType=pdf; ComponentLink3Description: Package Specification; ComponentLink3URL: http://www.ti.com/litv/pdf/mpdi055; ComponentLink4Description: URL Link1; ComponentLink4URL: Samples URL:http://www.ti.com/product/dcr021205#samples
footprint TI-NVE10 (DIP, 10-Leads, Body 22.86x6.61mm, Pitch 2.54mm)
pins: 1 VS (power) "Voltage input", 2 NC "No connection", 7 VREC (out) "Rectified output", 8 0VOUT (power) "Output ground", 9 VO (power) "Voltage output", 10 DNC "Do not connect", 11 ENABLE (in) "Output voltage enable", 12 ~{ERROR} (oc) "Error flag active low", 17 0VIN (power) "Input ground", 18 SYNC (in) "Synchronization input"

## DCR021205P-U
designator U?
Miniature, 2 W Isolated Regulated DC-DC Converter, -40 to 70 degC, 10-pin SOP (DVS10), Pb-Free (RoHS); Manufacturer: Texas Instruments; PartNumber: DCR021205P-U; Iout(Max)(A): 0.4; Regulated Outputs(#): 1; SubFamily: 1 W & 2 W Miniature; Vin(Max)(V): 13.2; Vin(Min)(V): 10.8; Vout(Max)(V): 5.1; Vout(Min)(V): 4.9; DatasheetVersion: SBVS028B; PackageVersion: 4203553/B; PackageReference: DVS10; PackageDescription: 10-Pin Plastic Small Outline, Body 6.61 x 22.86 mm; Supplier 1: Digi-Key; Supplier Part Number 1: 296-18420-5-ND; Supplier 2: Farnell; Supplier Part Number 2: 1510243; Supplier 3: Newark; Supplier Part Number 3: 20H5150; Supplier 4: Mouser; Supplier Part Number 4: 595-DCR021205P-U; Eco-Plan: Pb-Free (RoHS); Mounting Technology: Surface Mount; ComponentLink1Description: Manufacturer URL; ComponentLink1URL: http://www.ti.com/; ComponentLink2Description: Datasheet; ComponentLink2URL: http://www.ti.com/general/docs/lit/getliterature.tsp?genericPartNumber=DCR021205&fileType=pdf; ComponentLink3Description: Package Specification; ComponentLink3URL: http://www.ti.com/lit/ml/mpds113/mpds113.pdf; ComponentLink4Description: URL Link1; ComponentLink4URL: Samples URL:http://www.ti.com/product/tps55010#samples
footprint TI-DVS10_N (SOP, 10-Leads, Body 22.86x6.605mm, Pitch 2.54mm, IPC Medium Density)
footprint TI-DVS10_L (SOP, 10-Leads, Body 22.86x6.605mm, Pitch 2.54mm, IPC High Density)
footprint TI-DVS10_M (SOP, 10-Leads, Body 22.86x6.605mm, Pitch 2.54mm, IPC Low Density)
pins: 1 VS (power) "Voltage input", 2 NC "No connection", 7 VREC (out) "Rectified output", 8 0VOUT (power) "Output ground", 9 VO (power) "Voltage output", 10 DNC "Do not connect", 11 ENABLE (in) "Output voltage enable", 12 ~{ERROR} (oc) "Error flag active low", 17 0VIN (power) "Input ground", 18 SYNC (in) "Synchronization input"

## DCR022405P
designator U?
Miniature, 2 W Isolated Regulated DC-DC Converter, -40 to 70 degC, 10-pin DIP (NVE10), Pb-Free (RoHS); Manufacturer: Texas Instruments; PartNumber: DCR022405P; Iout(Max)(A): 0.4; Regulated Outputs(#): 1; SubFamily: 1 W & 2 W Miniature; Vin(Max)(V): 26.4; Vin(Min)(V): 21.6; Vout(Max)(V): 5.1; Vout(Min)(V): 4.9; DatasheetVersion: SBVS028B; PackageVersion: 4202497/A; PackageReference: NVE10; PackageDescription: 10-Pin Plastic In-Line, Body 6.61 x 22.86 mm; Supplier 1: Digi-Key; Supplier Part Number 1: 296-9459-5-ND; Supplier 2: Newark; Supplier Part Number 2: 74C9381; Supplier 3: Mouser; Supplier Part Number 3: 595-DCR022405P; Eco-Plan: Pb-Free (RoHS); Mounting Technology: Through Hole; Code_JEDEC: MS-001-AC; ComponentLink1Description: Manufacturer URL; ComponentLink1URL: http://www.ti.com/; ComponentLink2Description: Datasheet; ComponentLink2URL: http://www.ti.com/general/docs/lit/getliterature.tsp?genericPartNumber=DCR022405&fileType=pdf; ComponentLink3Description: Package Specification; ComponentLink3URL: http://www.ti.com/litv/pdf/mpdi055; ComponentLink4Description: URL Link1; ComponentLink4URL: Samples URL:http://www.ti.com/product/dcr022405#samples
footprint TI-NVE10 (DIP, 10-Leads, Body 22.86x6.61mm, Pitch 2.54mm)
pins: 1 VS (power) "Voltage Input", 2 NC "No Connection", 7 VREC (out) "Rectified Output", 8 0VOUT (power) "Output Ground", 9 VO (power) "Voltage Output", 10 DNC "Do Not Connect", 11 ENABLE (in) "Output Voltage Enable", 12 ~{ERROR} (oc) "Error Flag Active Low", 17 0VIN (power) "Input Ground", 18 SYNC (in) "Synchronization Input"

## DCR022405P-U
designator U?
Miniature, 2 W Isolated Regulated DC-DC Converter, -40 to 70 degC, 10-pin SOP (DVS10), Pb-Free (RoHS); Manufacturer: Texas Instruments; PartNumber: DCR022405P-U; Iout(Max)(A): 0.4; Regulated Outputs(#): 1; SubFamily: 1 W & 2 W Miniature; Vin(Max)(V): 26.4; Vin(Min)(V): 21.6; Vout(Max)(V): 5.1; Vout(Min)(V): 4.9; DatasheetVersion: SBVS028B; PackageVersion: 4203553/B; PackageReference: DVS10; PackageDescription: 10-Pin Plastic Small Outline, Body 6.61 x 22.86 mm; Supplier 1: Digi-Key; Supplier Part Number 1: 296-17138-ND; Supplier 2: Newark; Supplier Part Number 2: 82H3243; Supplier 3: Mouser; Supplier Part Number 3: 595-DCR022405P-U; Eco-Plan: Pb-Free (RoHS); Mounting Technology: Surface Mount; ComponentLink1Description: Manufacturer URL; ComponentLink1URL: http://www.ti.com/; ComponentLink2Description: Datasheet; ComponentLink2URL: http://www.ti.com/general/docs/lit/getliterature.tsp?genericPartNumber=DCR022405&fileType=pdf; ComponentLink3Description: Package Specification; ComponentLink3URL: http://www.ti.com/lit/ml/mpds113/mpds113.pdf; ComponentLink4Description: URL Link1; ComponentLink4URL: Samples URL:http://www.ti.com/product/dcr022405#samples
footprint TI-DVS10_N (SOP, 10-Leads, Body 22.86x6.605mm, Pitch 2.54mm, IPC Medium Density)
footprint TI-DVS10_L (SOP, 10-Leads, Body 22.86x6.605mm, Pitch 2.54mm, IPC High Density)
footprint TI-DVS10_M (SOP, 10-Leads, Body 22.86x6.605mm, Pitch 2.54mm, IPC Low Density)
pins: 1 VS (power) "Voltage Input", 2 NC "No Connection", 7 VREC (out) "Rectified Output", 8 0VOUT (power) "Output Ground", 9 VO (power) "Voltage Output", 10 DNC "Do Not Connect", 11 ENABLE (in) "Output Voltage Enable", 12 ~{ERROR} (oc) "Error Flag Active Low", 17 0VIN (power) "Input Ground", 18 SYNC (in) "Synchronization Input"

## DCR022405P-U/700
designator U?
Miniature, 2 W Isolated Regulated DC-DC Converter, -40 to 70 degC, 10-pin SOP (DVS10), Pb-Free (RoHS); Manufacturer: Texas Instruments; PartNumber: DCR022405P-U/700; Iout(Max)(A): 0.4; Regulated Outputs(#): 1; SubFamily: 1 W & 2 W Miniature; Vin(Max)(V): 26.4; Vin(Min)(V): 21.6; Vout(Max)(V): 5.1; Vout(Min)(V): 4.9; DatasheetVersion: SBVS028B; PackageVersion: 4203553/B; PackageReference: DVS10; PackageDescription: 10-Pin Plastic Small Outline, Body 6.61 x 22.86 mm; Supplier 1: Digi-Key; Supplier Part Number 1: DCR022405P-U/700-ND; Supplier 2: Newark; Supplier Part Number 2: 94H9315; Supplier 3: Mouser; Supplier Part Number 3: 595-DCR022405P-U/700; Eco-Plan: Pb-Free (RoHS); Mounting Technology: Surface Mount; ComponentLink1Description: Manufacturer URL; ComponentLink1URL: http://www.ti.com/; ComponentLink2Description: Datasheet; ComponentLink2URL: http://www.ti.com/general/docs/lit/getliterature.tsp?genericPartNumber=DCR022405&fileType=pdf; ComponentLink3Description: Package Specification; ComponentLink3URL: http://www.ti.com/lit/ml/mpds113/mpds113.pdf; ComponentLink4Description: URL Link1; ComponentLink4URL: Samples URL:http://www.ti.com/product/tps55010#samples
footprint TI-DVS10_N (SOP, 10-Leads, Body 22.86x6.605mm, Pitch 2.54mm, IPC Medium Density)
footprint TI-DVS10_L (SOP, 10-Leads, Body 22.86x6.605mm, Pitch 2.54mm, IPC High Density)
footprint TI-DVS10_M (SOP, 10-Leads, Body 22.86x6.605mm, Pitch 2.54mm, IPC Low Density)
pins: 1 VS (power) "Voltage Input", 2 NC "No Connection", 7 VREC (out) "Rectified Output", 8 0VOUT (power) "Output Ground", 9 VO (power) "Voltage Output", 10 DNC "Do Not Connect", 11 ENABLE (in) "Output Voltage Enable", 12 ~{ERROR} (oc) "Error Flag Active Low", 17 0VIN (power) "Input Ground", 18 SYNC (in) "Synchronization Input"

## DCV010505DP
designator U?
Miniature, 1 W, 1500 Vrms Isolated Unregulated DC-DC Converter, -40 to 85 degC, 7-pin DIP (NVA7), Pb-Free (RoHS); Manufacturer: Texas Instruments; PartNumber: DCV010505DP; Iout(Max)(A): 0.1; Regulated Outputs(#): 2; SubFamily: 1 W & 2 W Miniature; Vin(Max)(V): 5.5; Vin(Min)(V): 4.5; Vout(Max)(V): 5.25; Vout(Min)(V): 4.75; DatasheetVersion: SBVS014; PackageVersion: 4202489/B; PackageReference: NVA7; PackageDescription: 7-Pin Plastic In-Line, Body 6.61 x 19.18 mm; Supplier 1: Digi-Key; Supplier Part Number 1: 296-13450-5-ND; Supplier 2: Newark; Supplier Part Number 2: 74C9382; Supplier 3: Mouser; Supplier Part Number 3: 595-DCV010505DP; Eco-Plan: Pb-Free (RoHS); Mounting Technology: Through Hole; Code_JEDEC: MS-001-AA; ComponentLink1Description: Manufacturer URL; ComponentLink1URL: http://www.ti.com/; ComponentLink2Description: Datasheet; ComponentLink2URL: http://www.ti.com/general/docs/lit/getliterature.tsp?genericPartNumber=DCV010505D&fileType=pdf; ComponentLink3Description: Package Specification; ComponentLink3URL: http://www.ti.com/lit/ml/mpdi058a/mpdi058a.pdf; ComponentLink4Description: URL Link1; ComponentLink4URL: Samples URL:http://www.ti.com/product/dcv010505d#samples
footprint TI-NVA7 (DIP, 7-Leads, Body 19.18x6.605mm, Pitch 2.54mm)
pins: 1 VS (power) "Voltage input", 2 0V (power) "Input side common", 5 0V (power) "Output side common", 6 +VOUT (power) "+Voltage out", 7 -VOUT (power) "-Voltage out", 8 SYNCOUT (out) "Unrectified transformer output", 14 SYNCIN (in) "Synchronization pin"

## DCV010505DP-U
designator U?
Miniature, 1 W, 1500 Vrms Isolated Unregulated DC-DC Converter, -40 to 85 degC, 7-pin SOP (DUA7), Pb-Free (RoHS); Manufacturer: Texas Instruments; PartNumber: DCV010505DP-U; Iout(Max)(A): 0.1; Regulated Outputs(#): 2; SubFamily: 1 W & 2 W Miniature; Vin(Max)(V): 5.5; Vin(Min)(V): 4.5; Vout(Max)(V): 5.25; Vout(Min)(V): 4.75; DatasheetVersion: SBVS014; PackageVersion: 4202490/B; PackageReference: DUA7; PackageDescription: 7-Pin Plastic Small Outline, Body 6.61 x 19.18 mm; Supplier 1: Digi-Key; Supplier Part Number 1: 296-33269-5-ND; Supplier 2: Newark; Supplier Part Number 2: 43K3295; Supplier 3: Mouser; Supplier Part Number 3: 595-DCV010505DP-U; Eco-Plan: Pb-Free (RoHS); Mounting Technology: Surface Mount; ComponentLink1Description: Manufacturer URL; ComponentLink1URL: http://www.ti.com/; ComponentLink2Description: Datasheet; ComponentLink2URL: http://www.ti.com/general/docs/lit/getliterature.tsp?genericPartNumber=DCV010505D&fileType=pdf; ComponentLink3Description: Package Specification; ComponentLink3URL: http://www.ti.com/lit/ml/mpds097a/mpds097a.pdf; ComponentLink4Description: URL Link1; ComponentLink4URL: Samples URL:http://www.ti.com/product/tps55010#samples
footprint TI-DUA7_N (SOP, 7-Leads, Body 19.18x6.605mm, Pitch 2.54mm, IPC Medium Density)
footprint TI-DUA7_L (SOP, 7-Leads, Body 19.18x6.605mm, Pitch 2.54mm, IPC High Density)
footprint TI-DUA7_M (SOP, 7-Leads, Body 19.18x6.605mm, Pitch 2.54mm, IPC Low Density)
pins: 1 VS (power) "Voltage input", 2 0V (power) "Input side common", 5 0V (power) "Output side common", 6 +VOUT (power) "+Voltage out", 7 -VOUT (power) "-Voltage out", 8 SYNCOUT (out) "Unrectified transformer output", 14 SYNCIN (in) "Synchronization pin"

## DCV010505P
designator U?
Miniature, 1 W, 1500 Vrms Isolated Unregulated DC-DC Converter, -40 to 85 degC, 7-pin DIP (NVA7), Pb-Free (RoHS); Manufacturer: Texas Instruments; PartNumber: DCV010505P; Iout(Max)(A): 0.2; Regulated Outputs(#): 1; SubFamily: 1 W & 2 W Miniature; Vin(Max)(V): 5.5; Vin(Min)(V): 4.5; Vout(Max)(V): 5.25; Vout(Min)(V): 4.75; DatasheetVersion: SBVS014; PackageVersion: 4202489/B; PackageReference: NVA7; PackageDescription: 7-Pin Plastic In-Line, Body 6.61 x 19.18 mm; Supplier 1: Digi-Key; Supplier Part Number 1: DCV010505P-ND; Supplier 2: Newark; Supplier Part Number 2: 74C9383; Supplier 3: Mouser; Supplier Part Number 3: 595-DCV010505P; Eco-Plan: Pb-Free (RoHS); Mounting Technology: Through Hole; Code_JEDEC: MS-001-AA; ComponentLink1Description: Manufacturer URL; ComponentLink1URL: http://www.ti.com/; ComponentLink2Description: Datasheet; ComponentLink2URL: http://www.ti.com/general/docs/lit/getliterature.tsp?genericPartNumber=DCV010505&fileType=pdf; ComponentLink3Description: Package Specification; ComponentLink3URL: http://www.ti.com/lit/ml/mpdi058a/mpdi058a.pdf; ComponentLink4Description: URL Link1; ComponentLink4URL: Samples URL:http://www.ti.com/product/dcv010505#samples
footprint TI-NVA7 (DIP, 7-Leads, Body 19.18x6.605mm, Pitch 2.54mm)
pins: 1 VS (power) "Voltage input", 2 0V (power) "Input side common", 5 0V (power) "Output side common", 6 +VOUT (power) "+Voltage Out", 7 NC "Not connected", 8 SYNCOUT (out) "Unrectified transformer output", 14 SYNCIN (in) "Synchronization pin"

## DCV010505P-U
designator U?
Miniature, 1 W, 1500 Vrms Isolated Unregulated DC-DC Converter, -40 to 85 degC, 7-pin SOP (DUA7), Pb-Free (RoHS); Manufacturer: Texas Instruments; PartNumber: DCV010505P-U; Iout(Max)(A): 0.2; Regulated Outputs(#): 1; SubFamily: 1 W & 2 W Miniature; Vin(Max)(V): 5.5; Vin(Min)(V): 4.5; Vout(Max)(V): 5.25; Vout(Min)(V): 4.75; DatasheetVersion: SBVS014; PackageVersion: 4202490/B; PackageReference: DUA7; PackageDescription: 7-Pin Plastic Small Outline, Body 6.61 x 19.18 mm; Supplier 1: Digi-Key; Supplier Part Number 1: DCV010505P-U-ND; Supplier 2: Farnell; Supplier Part Number 2: 1461041; Supplier 3: Newark; Supplier Part Number 3: 74C9384; Supplier 4: Mouser; Supplier Part Number 4: 595-DCV010505P-U; Eco-Plan: Pb-Free (RoHS); Mounting Technology: Surface Mount; ComponentLink1Description: Manufacturer URL; ComponentLink1URL: http://www.ti.com/; ComponentLink2Description: Datasheet; ComponentLink2URL: http://www.ti.com/general/docs/lit/getliterature.tsp?genericPartNumber=DCV010505&fileType=pdf; ComponentLink3Description: Package Specification; ComponentLink3URL: http://www.ti.com/lit/ml/mpds097a/mpds097a.pdf; ComponentLink4Description: URL Link1; ComponentLink4URL: Samples URL:http://www.ti.com/product/dcv010505#samples
footprint TI-DUA7_N (SOP, 7-Leads, Body 19.18x6.605mm, Pitch 2.54mm, IPC Medium Density)
footprint TI-DUA7_L (SOP, 7-Leads, Body 19.18x6.605mm, Pitch 2.54mm, IPC High Density)
footprint TI-DUA7_M (SOP, 7-Leads, Body 19.18x6.605mm, Pitch 2.54mm, IPC Low Density)
pins: 1 VS (power) "Voltage input", 2 0V (power) "Input side common", 5 0V (power) "Output side common", 6 +VOUT (power) "+Voltage Out", 7 NC "Not connected", 8 SYNCOUT (out) "Unrectified transformer output", 14 SYNCIN (in) "Synchronization pin"